# EAGLE library part FTDIUSBCABLE (library microbuilder)
FTDI TTL-232R USB Cable Connector for FTDI's USB->RS232 Cable
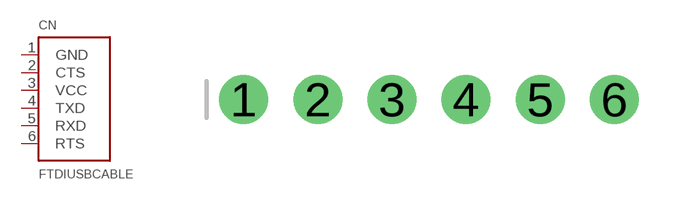
[diagram p50: symbol with the pads of 1X06_ROUND; footprint 1X06_ROUND]

Designator prefix CN

## FTDIUSBCABLE  [1X06_ROUND]
1  GND
2  CTS
3  VCC
4  TXD
5  RXD
6  RTS

## Footprint 1X06_ROUND (pad centres in mm)
PIN HEADER
drill 1 pad 1.676: 1 -6.35,0; 2 -3.81,0; 3 -1.27,0; 4 1.27,0; 5 3.81,0; 6 6.35,0